# EAGLE library part LED-APA102 (library Ai_LED)
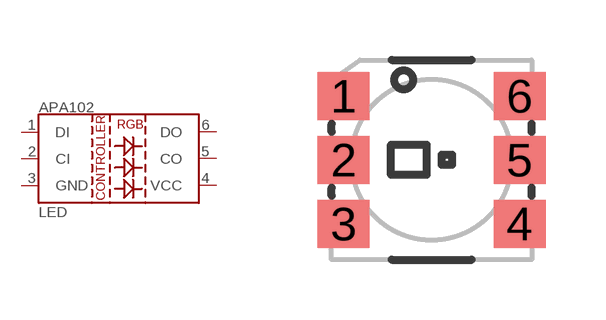
[diagram p1: symbol with the pads of LED-APA102; footprint LED-APA102]

Designator prefix LED

## LED-APA102  [LED-APA102]
1  DI
2  CI
3  GND
4  VCC
5  CO
6  DO

## Footprint LED-APA102 (pad centres in mm)
smd 1.3 x 1.2: 1 -2.2,1.6; 2 -2.2,0; 3 -2.2,-1.6; 4 2.2,-1.6; 5 2.2,0; 6 2.2,1.6